# EAGLE library part TCN75A (library PassTransistor)
TCN75A: I2C Thermometer Specification: Manufacturer: Microchip Technology Sensing Temperature - Local: -40C~125C Output Type: I2C Voltage - Supply: 2.7~5.5V Package: MSOP-8 Datasheet: TCN75A <http://ww1.microchip.com/downloads/en/DeviceDoc/21935D.pdf> Digi-Key Part #: TCN75AVUA713CT-ND <https://www.digikey.com/product-detail/en/microchip-technology/TCN75AVUA713/TCN75AVUA713CT-ND/7065617>
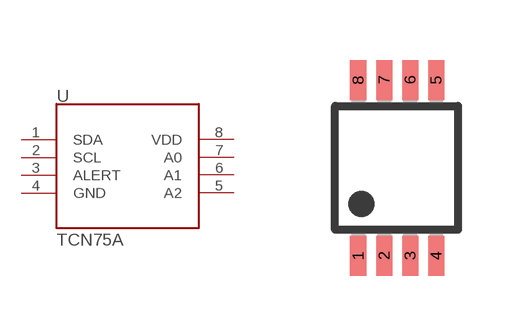
[diagram p5: symbol with the pads of DGK_S-PDSO-G8; footprint DGK_S-PDSO-G8]

Designator prefix U

## TCN75A  [DGK_S-PDSO-G8]
1  SDA
2  SCL
3  ALERT
4  GND
5  A2
6  A1
7  A0
8  VDD

## Footprint DGK_S-PDSO-G8 (pad centres in mm)
8-Pin MSOP (DGK) Package Source: DGK (S-PDSO-G8) <http://www.ti.com/lit/ml/mpds028d/mpds028d.pdf>
smd 0.4 x 1: 1 -0.975,-2.2; 2 -0.325,-2.2; 3 0.325,-2.2; 4 0.975,-2.2; 5 0.975,2.2; 6 0.325,2.2; 7 -0.325,2.2; 8 -0.975,2.2